# Altium schematic symbol library 1-2199298-9.SchLib: 1 symbol
Pins are listed as number, name and electrical type; pins without a type are passive.

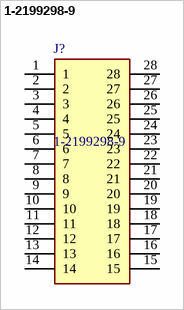
[diagram p0: symbol 1-2199298-9]

## 1-2199298-9
designator J?
DIP Sockets, Stamped & Formed, 28 Position, Low Profile, Straight, Tin, -40  105 C [-40  221 F]; Manufacturer_Name: TE Connectivity; Geometry.Height: 5.3mm; Mouser Part Number: 571-1-2199298-9; Mouser Price/Stock: https://www.mouser.co.uk/ProductDetail/TE-Connectivity/1-2199298-9?qs=fK8dlpkaUMumZ9haKKccEA%3D%3D; Manufacturer_Part_Number: 1-2199298-9; Datasheet Link: https://www.te.com/commerce/DocumentDelivery/DDEController?Action=showdoc&DocId=Customer+Drawing%7F2199298%7FA%7Fpdf%7FEnglish%7FENG_CD_2199298_A_baseFilename.pdf%7F1-2199298-9
footprint DIPS762W70P254L3556H530Q28N
pins: 1, 2, 3, 4, 5, 6, 7, 8, 9, 10, 11, 12, 13, 14, 15, 16, 17, 18, 19, 20, 21, 22, 23, 24, 25, 26, 27, 28